# EAGLE library part ATMEGA_48,88,168,328 (library HAVRM)
Atmel Atmega 48,88,168,328
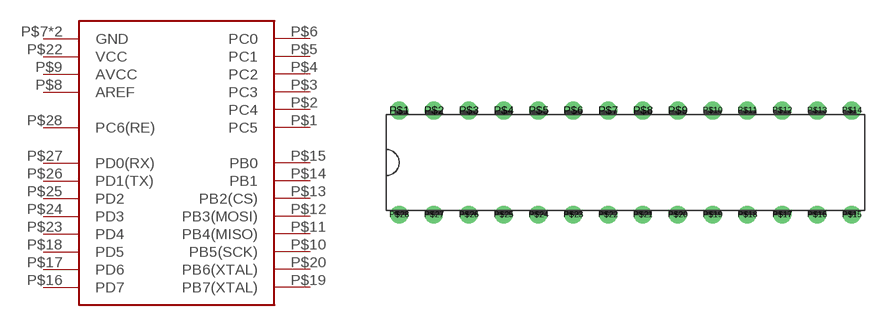
[diagram p0: symbol with the pads of PDIP_28P3; footprint PDIP_28P3]

Designator prefix -

## ATMEGA_48,88,168,328  [PDIP_28P3]
P$1  PC5
P$2  PC4
P$3  PC3
P$4  PC2
P$5  PC1
P$6  PC0
P$7  GND
P$8  AREF
P$9  AVCC
P$10  PB5(SCK)
P$11  PB4(MISO)
P$12  PB3(MOSI)
P$13  PB2(CS)
P$14  PB1
P$15  PB0
P$16  PD7
P$17  PD6
P$18  PD5
P$19  PB7(XTAL)
P$20  PB6(XTAL)
P$21  GND
P$22  VCC
P$23  PD4
P$24  PD3
P$25  PD2
P$26  PD1(TX)
P$27  PD0(RX)
P$28  PC6(RE)

## Footprint PDIP_28P3 (pad centres in mm)
DIP 14*2 PIN Atmel package
drill 0.8: P$1 0,7.62; P$2 2.54,7.62; P$3 5.08,7.62; P$4 7.62,7.62; P$5 10.16,7.62; P$6 12.7,7.62; P$7 15.24,7.62; P$8 17.78,7.62; P$9 20.32,7.62; P$10 22.86,7.62; P$11 25.4,7.62; P$12 27.94,7.62; P$13 30.48,7.62; P$14 33.02,7.62; P$15 33.02,0; P$16 30.48,0; P$17 27.94,0; P$18 25.4,0; P$19 22.86,0; P$20 20.32,0; P$21 17.78,0; P$22 15.24,0; P$23 12.7,0; P$24 10.16,0; P$25 7.62,0; P$26 5.08,0; P$27 2.54,0; P$28 0,0